# Altium schematic symbol library 355015KFT.SchLib: 1 symbol
Pins are listed as number, name and electrical type; pins without a type are passive.

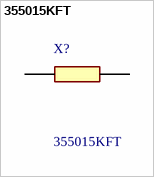
[diagram p0: symbol 355015KFT]

## 355015KFT
designator X?
Thick Film Resistors - SMD 3550 15K 1%; Manufacturer_Name: TE Connectivity; Geometry.Height: 1.2mm; Mouser Part Number: *; Mouser Price/Stock: *; Manufacturer_Part_Number: 355015KFT; Datasheet Link: *
footprint RESC11050X120N
pins: 1, 2